# Altium schematic symbol library RPSLib_orig.SchLib: 1 symbol
Pins are listed as number, name and electrical type; pins without a type are passive.

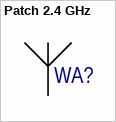
[diagram p0: symbol Patch 2.4 GHz]

## Patch 2.4 GHz
designator WA?  (value not drawn)  (net tie, no BOM)
footprint 2.4GHz Patch
pins: 1